# EAGLE library part DDR_SDRAM_X16 (library DDR_SDRAM)
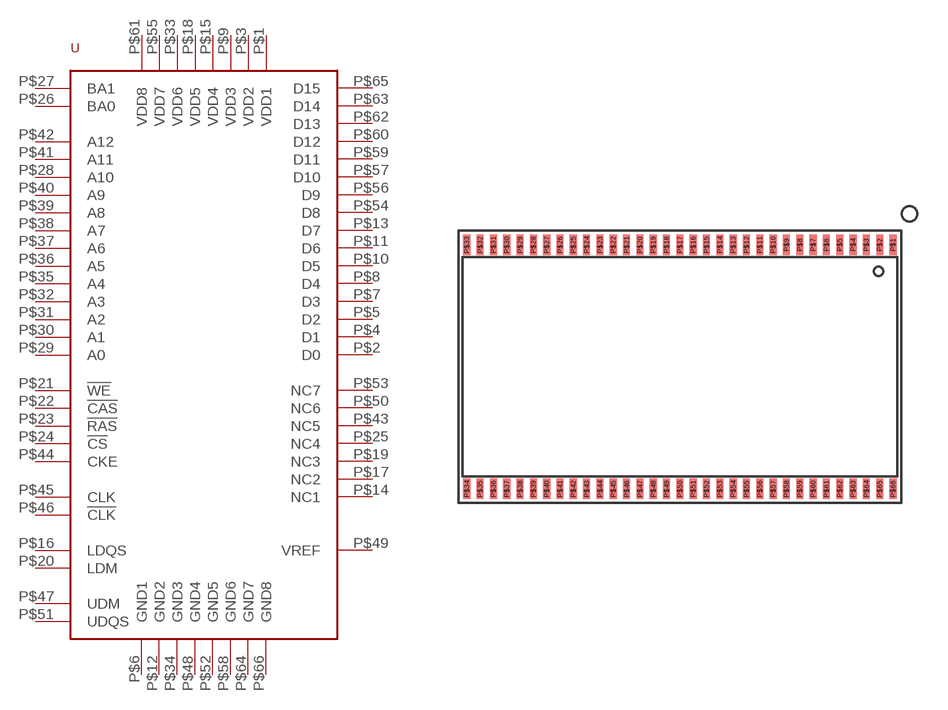
[diagram p0: symbol with the pads of 66TSOP2; footprint 66TSOP2]

Designator prefix -

## DDR_SDRAM_X16  [66TSOP2]
P$1  VDD1
P$2  D0
P$3  VDD2
P$4  D1
P$5  D2
P$6  GND1
P$7  D3
P$8  D4
P$9  VDD3
P$10  D5
P$11  D6
P$12  GND2
P$13  D7
P$14  NC1
P$15  VDD4
P$16  LDQS
P$17  NC2
P$18  VDD5
P$19  NC3
P$20  LDM
P$21  !WE
P$22  !CAS
P$23  !RAS
P$24  !CS
P$25  NC4
P$26  BA0
P$27  BA1
P$28  A10
P$29  A0
P$30  A1
P$31  A2
P$32  A3
P$33  VDD6
P$34  GND3
P$35  A4
P$36  A5
P$37  A6
P$38  A7
P$39  A8
P$40  A9
P$41  A11
P$42  A12
P$43  NC5
P$44  CKE
P$45  CLK
P$46  !CLK
P$47  UDM
P$48  GND4
P$49  VREF
P$50  NC6
P$51  UDQS
P$52  GND5
P$53  NC7
P$54  D8
P$55  VDD7
P$56  D9
P$57  D10
P$58  GND6
P$59  D11
P$60  D12
P$61  VDD8
P$62  D13
P$63  D14
P$64  GND7
P$65  D15
P$66  GND8

## Footprint 66TSOP2 (pad centres in mm)
smd 0.35 x 1: P$1 0,0; P$2 -0.65,0; P$3 -1.3,0; P$4 -1.95,0; P$5 -2.6,0; P$6 -3.25,0; P$7 -3.9,0; P$8 -4.55,0; P$9 -5.2,0; P$10 -5.85,0; P$11 -6.5,0; P$12 -7.15,0; P$13 -7.8,0; P$14 -8.45,0; P$15 -9.1,0; P$16 -9.75,0; P$17 -10.4,0; P$18 -11.05,0; P$19 -11.7,0; P$20 -12.35,0; P$21 -13,0; P$22 -13.65,0; P$23 -14.3,0; P$24 -14.95,0; P$25 -15.6,0; P$26 -16.25,0; P$27 -16.9,0; P$28 -17.55,0; P$29 -18.2,0; P$30 -18.85,0; P$31 -19.5,0; P$32 -20.15,0; P$33 -20.8,0; P$34 -20.8,-11.91; P$35 -20.15,-11.91; P$36 -19.5,-11.91; P$37 -18.85,-11.91; P$38 -18.2,-11.91; P$39 -17.55,-11.91; P$40 -16.9,-11.91; P$41 -16.25,-11.91; P$42 -15.6,-11.91; P$43 -14.95,-11.91; P$44 -14.3,-11.91; P$45 -13.65,-11.91; P$46 -13,-11.91; P$47 -12.35,-11.91; P$48 -11.7,-11.91; P$49 -11.05,-11.91; P$50 -10.4,-11.91; P$51 -9.75,-11.91; P$52 -9.1,-11.91; P$53 -8.45,-11.91; P$54 -7.8,-11.91; P$55 -7.15,-11.91; P$56 -6.5,-11.91; P$57 -5.85,-11.91; P$58 -5.2,-11.91; P$59 -4.55,-11.91; P$60 -3.9,-11.91; P$61 -3.25,-11.91; P$62 -2.6,-11.91; P$63 -1.95,-11.91; P$64 -1.3,-11.91; P$65 -0.65,-11.91; P$66 0,-11.91